# Altium footprint library Resistors.PcbLib: 12 footprints
Each footprint in its own frame and in the unit in brackets; x right, y up, seen from the top. Pads: shape width x height; smd on the part's side, far side on the other; paste and mask are expansions set on the pad; w line width, h text height; cw(c..) or ccw(c..) is an arc to the next point about the centre after c.
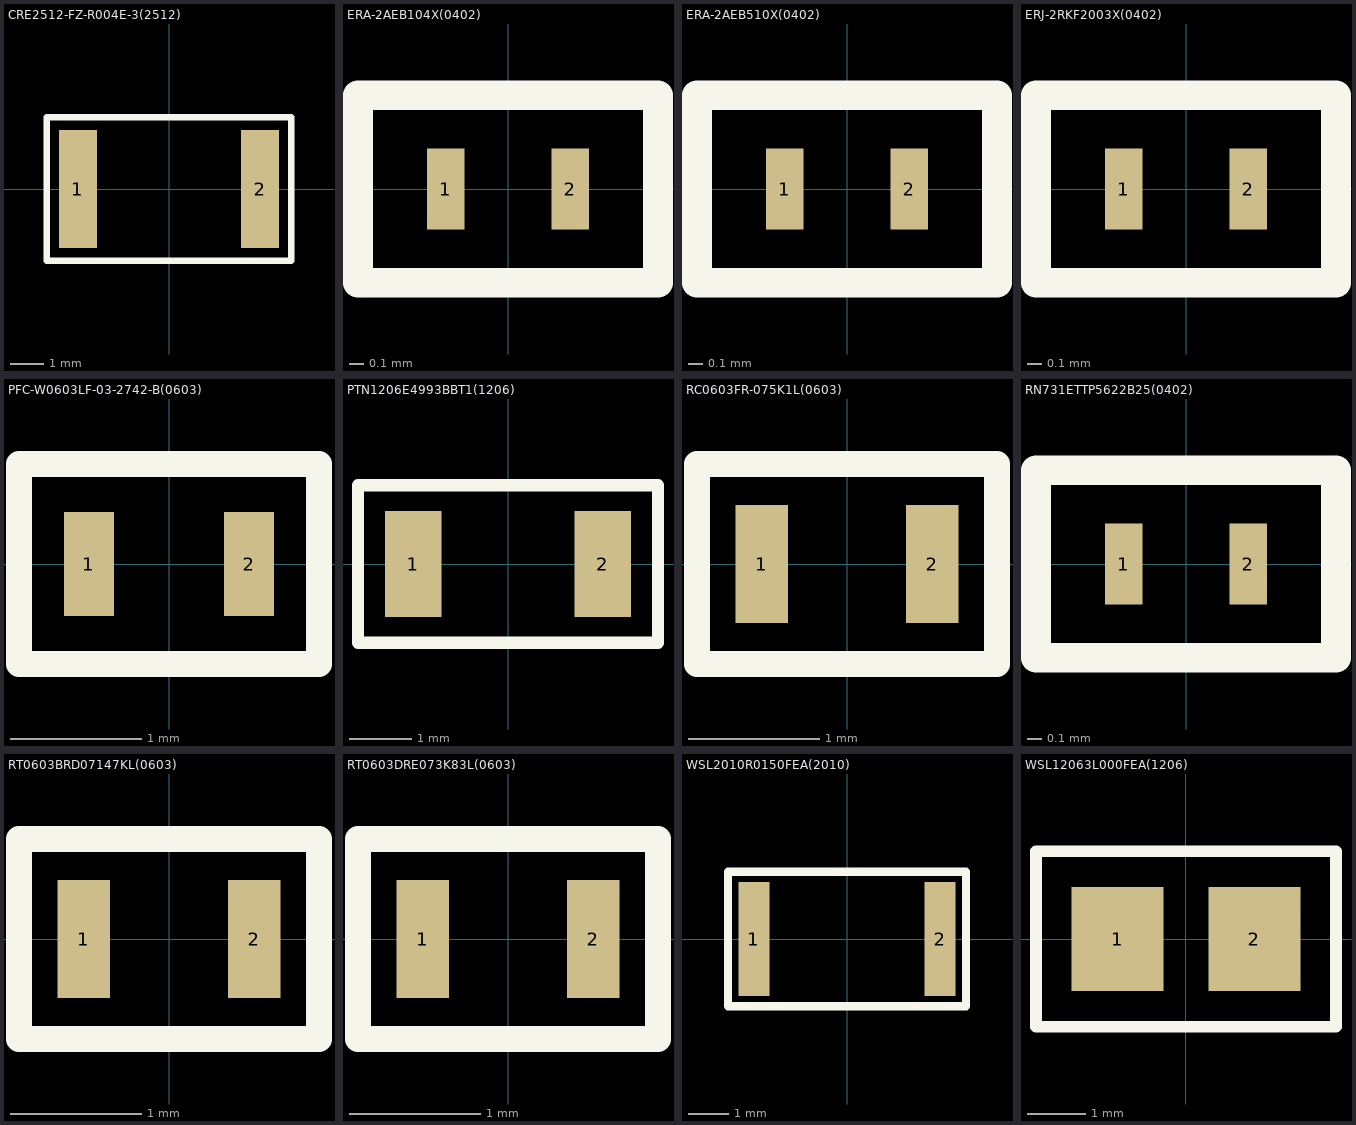
[diagram p0: the footprints below, top view; thin cyan lines are the x and y axes]

## CRE2512-FZ-R004E-3(2512) [mm]
pads (2):
  rect 1.15x3.55 smd: 1(-2.75,0) 2(2.75,0)
Top Overlay:
  lines w0.2: -3.683,-2.159 -3.683,-0.633 -3.683,2.159 3.683,2.159 3.683,-2.159 -3.683,-2.159

## ERA-2AEB104X(0402) [mm]
pads (2):
  rect 0.255x0.55 smd: 1(-0.422,0) 2(0.423,0)
Top Overlay:
  lines w0.2: -1.016,-0.635 -1.016,0.259 -1.016,0.635 1.016,0.635 1.016,-0.635 -1.016,-0.635

## ERA-2AEB510X(0402) [mm]
pads (2):
  rect 0.255x0.55 smd: 1(-0.422,0) 2(0.423,0)
Top Overlay:
  lines w0.2: -1.016,-0.635 -1.016,0.259 -1.016,0.635 1.016,0.635 1.016,-0.635 -1.016,-0.635

## ERJ-2RKF2003X(0402) [mm]
pads (2):
  rect 0.255x0.55 smd: 1(-0.422,0) 2(0.423,0)
Top Overlay:
  lines w0.2: -1.016,-0.635 1.016,-0.635 1.016,0.635 -1.016,0.635 -1.016,0.259 -1.016,-0.635

## PFC-W0603LF-03-2742-B(0603) [mm]
pads (2):
  rect 0.38x0.79 smd: 1(-0.61,0) 2(0.61,0)
Top Overlay:
  lines w0.2: -1.143,-0.762 1.143,-0.762 1.143,0.762 -1.143,0.762 -1.143,-0.262 -1.143,-0.762

## PTN1206E4993BBT1(1206) [mil]
pads (2):
  rect 35.98x67.01 smd: 1(-60,0) 2(60,0)
Top Overlay:
  lines w7.87: -95,-50 95,-50 95,50 -95,50 -95,8.54 -95,-50

## RC0603FR-075K1L(0603) [mm]
pads (2):
  rect 0.4x0.9 smd: 1(-0.65,0) 2(0.65,0)
Top Overlay:
  lines w0.2: -1.143,-0.762 1.143,-0.762 1.143,0.762 -1.143,0.762 -1.143,0.257 -1.143,-0.508 -1.143,-0.762

## RN731ETTP5622B25(0402) [mm]
pads (2):
  rect 0.255x0.55 smd: 1(-0.422,0) 2(0.423,0)
Top Overlay:
  lines w0.2: -1.016,-0.635 -1.016,0.259 -1.016,0.635 1.016,0.635 1.016,-0.635 -1.016,-0.635

## RT0603BRD07147KL(0603) [mm]
pads (2):
  rect 0.4x0.9 smd: 1(-0.65,0) 2(0.65,0)
Top Overlay:
  lines w0.2: -1.143,-0.762 -1.143,0.257 -1.143,0.762 1.143,0.762 1.143,-0.762 -1.143,-0.762

## RT0603DRE073K83L(0603) [mm]
pads (2):
  rect 0.4x0.9 smd: 1(-0.65,0) 2(0.65,0)
Top Overlay:
  lines w0.2: -1.143,-0.762 1.143,-0.762 1.143,0.762 -1.143,0.762 -1.143,0.257 -1.143,-0.508 -1.143,-0.762

## WSL2010R0150FEA(2010) [mil]
pads (2):
  rect 30x110 smd: 1(-90,0) 2(90,0)
Top Overlay:
  lines w7.87: -115,-65 -115,-5.94 -115,65 115,65 115,-65 -115,-65

## WSL12063L000FEA(1206) [mm]
pads (2):
  rect 1.57x1.78 smd: 1(-1.165,0) 2(1.165,0)
Top Overlay:
  lines w0.2: -2.56,-1.5 2.56,-1.5 2.56,1.5 -2.56,1.5 -2.56,0 -2.56,-1.5